# Altium schematic symbol library Altium Library Master.SchLib: 676 symbols (part 4 of 4)
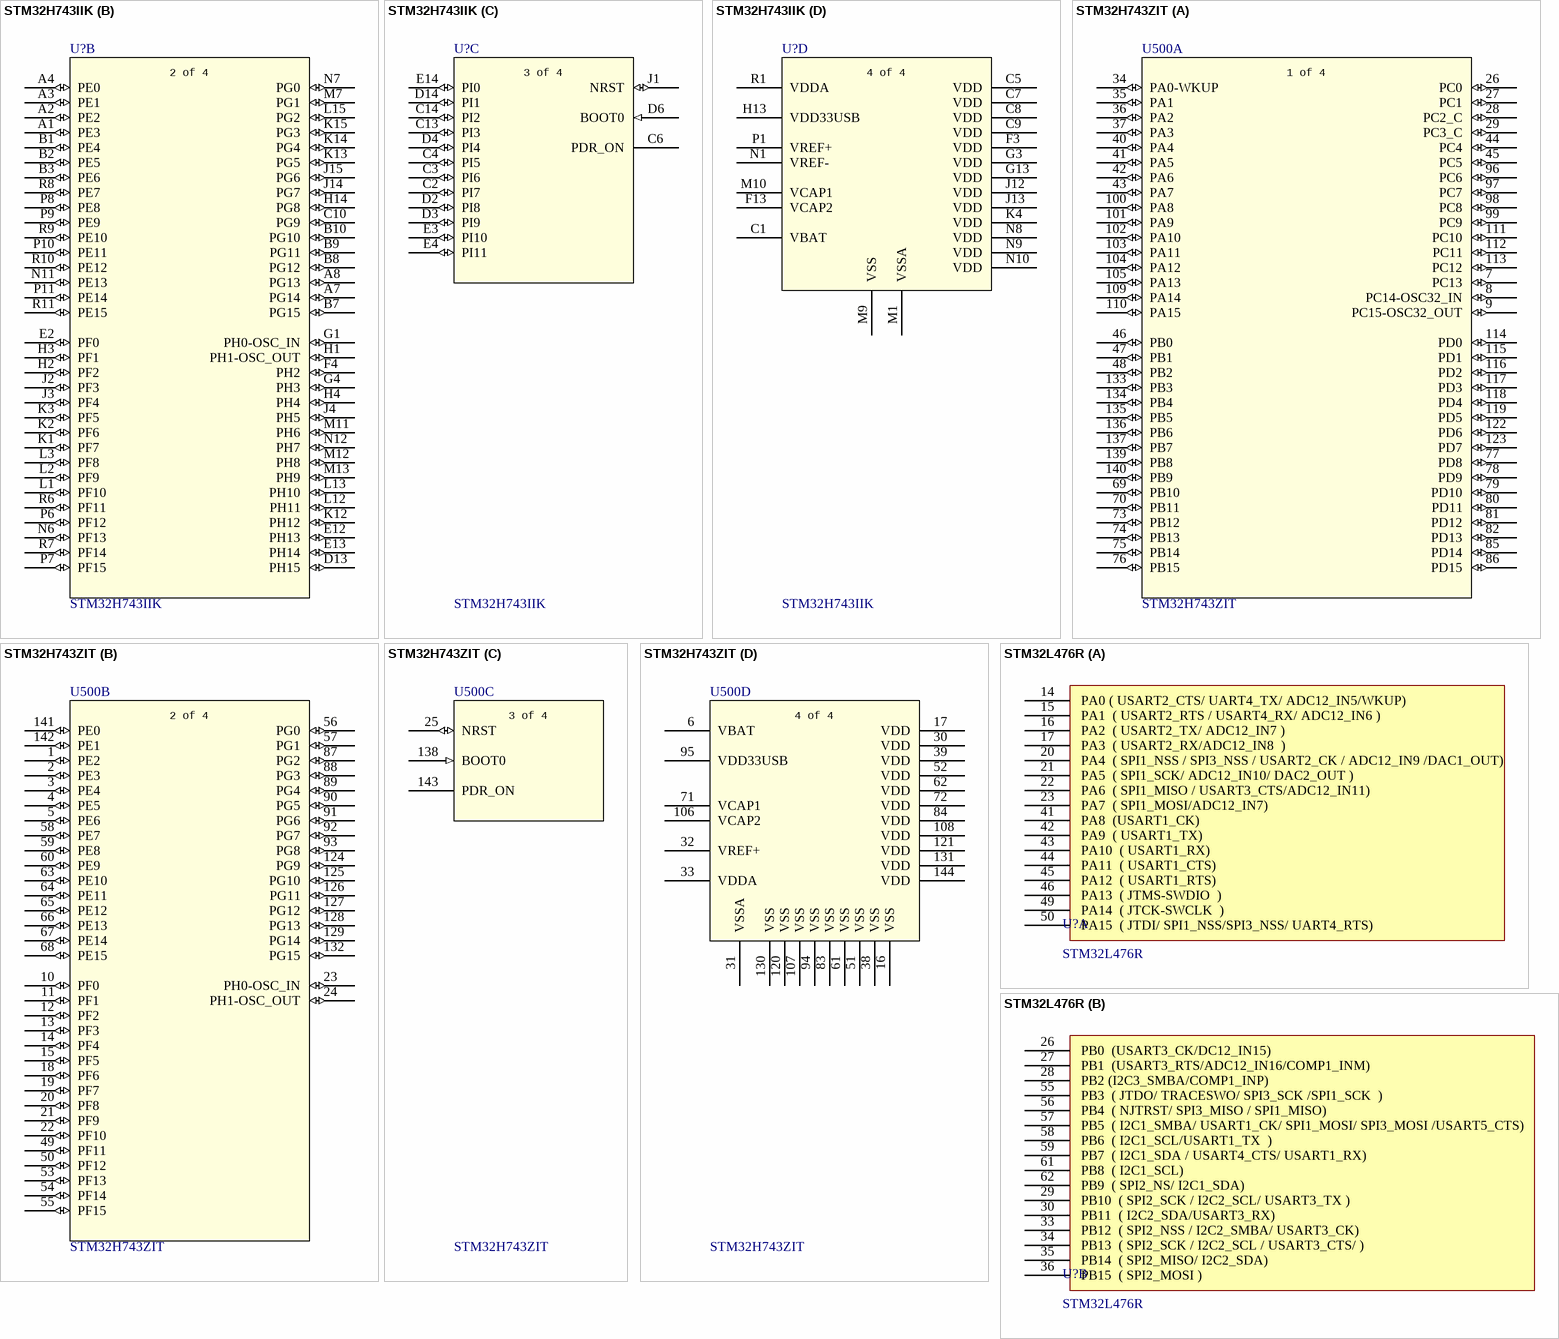
[diagram p34: symbols STM32H743IIK to STM32L476R]

## STM32H743ZIT
designator U500
Microcontroller, ARM, 32b, 400MHz, 2M Flash, 1.6-3.6V, 144LQFP; Part Number: 51-32H743-01
footprint LQFP144
part A pins: 7 PC13 (io), 8 PC14-OSC32_IN (io), 9 PC15-OSC32_OUT (io), 26 PC0 (io), 27 PC1 (io), 28 PC2_C (io), 29 PC3_C (io), 34 PA0-WKUP (io), 35 PA1 (io), 36 PA2 (io), 37 PA3 (io), 40 PA4 (io), 41 PA5 (io), 42 PA6 (io), 43 PA7 (io), 44 PC4 (io), 45 PC5 (io), 46 PB0 (io), 47 PB1 (io), 48 PB2 (io), 69 PB10 (io), 70 PB11 (io), 73 PB12 (io), 74 PB13 (io), 75 PB14 (io), 76 PB15 (io), 77 PD8 (io), 78 PD9 (io), 79 PD10 (io), 80 PD11 (io), 81 PD12 (io), 82 PD13 (io), 85 PD14 (io), 86 PD15 (io), 96 PC6 (io), 97 PC7 (io), 98 PC8 (io), 99 PC9 (io), 100 PA8 (io), 101 PA9 (io), 102 PA10 (io), 103 PA11 (io), 104 PA12 (io), 105 PA13 (io), 109 PA14 (io), 110 PA15 (io), 111 PC10 (io), 112 PC11 (io), 113 PC12 (io), 114 PD0 (io), 115 PD1 (io), 116 PD2 (io), 117 PD3 (io), 118 PD4 (io), 119 PD5 (io), 122 PD6 (io), 123 PD7 (io), 133 PB3 (io), 134 PB4 (io), 135 PB5 (io), 136 PB6 (io), 137 PB7 (io), 139 PB8 (io), 140 PB9 (io)
part B pins: 1 PE2 (io), 2 PE3 (io), 3 PE4 (io), 4 PE5 (io), 5 PE6 (io), 10 PF0 (io), 11 PF1 (io), 12 PF2 (io), 13 PF3 (io), 14 PF4 (io), 15 PF5 (io), 18 PF6 (io), 19 PF7 (io), 20 PF8 (io), 21 PF9 (io), 22 PF10 (io), 23 PH0-OSC_IN (io), 24 PH1-OSC_OUT (io), 49 PF11 (io), 50 PF12 (io), 53 PF13 (io), 54 PF14 (io), 55 PF15 (io), 56 PG0 (io), 57 PG1 (io), 58 PE7 (io), 59 PE8 (io), 60 PE9 (io), 63 PE10 (io), 64 PE11 (io), 65 PE12 (io), 66 PE13 (io), 67 PE14 (io), 68 PE15 (io), 87 PG2 (io), 88 PG3 (io), 89 PG4 (io), 90 PG5 (io), 91 PG6 (io), 92 PG7 (io), 93 PG8 (io), 124 PG9 (io), 125 PG10 (io), 126 PG11 (io), 127 PG12 (io), 128 PG13 (io), 129 PG14 (io), 132 PG15 (io), 141 PE0 (io), 142 PE1 (io)
part C pins: 25 NRST (io), 138 BOOT0 (in), 143 PDR_ON
part D pins: 6 VBAT (power), 16 VSS (power), 17 VDD (power), 30 VDD (power), 31 VSSA (power), 32 VREF+ (power), 33 VDDA (power), 38 VSS (power), 39 VDD (power), 51 VSS (power), 52 VDD (power), 61 VSS (power), 62 VDD (power), 71 VCAP1 (power), 72 VDD (power), 83 VSS (power), 84 VDD (power), 94 VSS (power), 95 VDD33USB (power), 106 VCAP2 (power), 107 VSS (power), 108 VDD (power), 120 VSS (power), 121 VDD (power), 130 VSS (power), 131 VDD (power), 144 VDD (power)
part A text: 1 of 4
part B text: 2 of 4
part C text: 3 of 4
part D text: 4 of 4

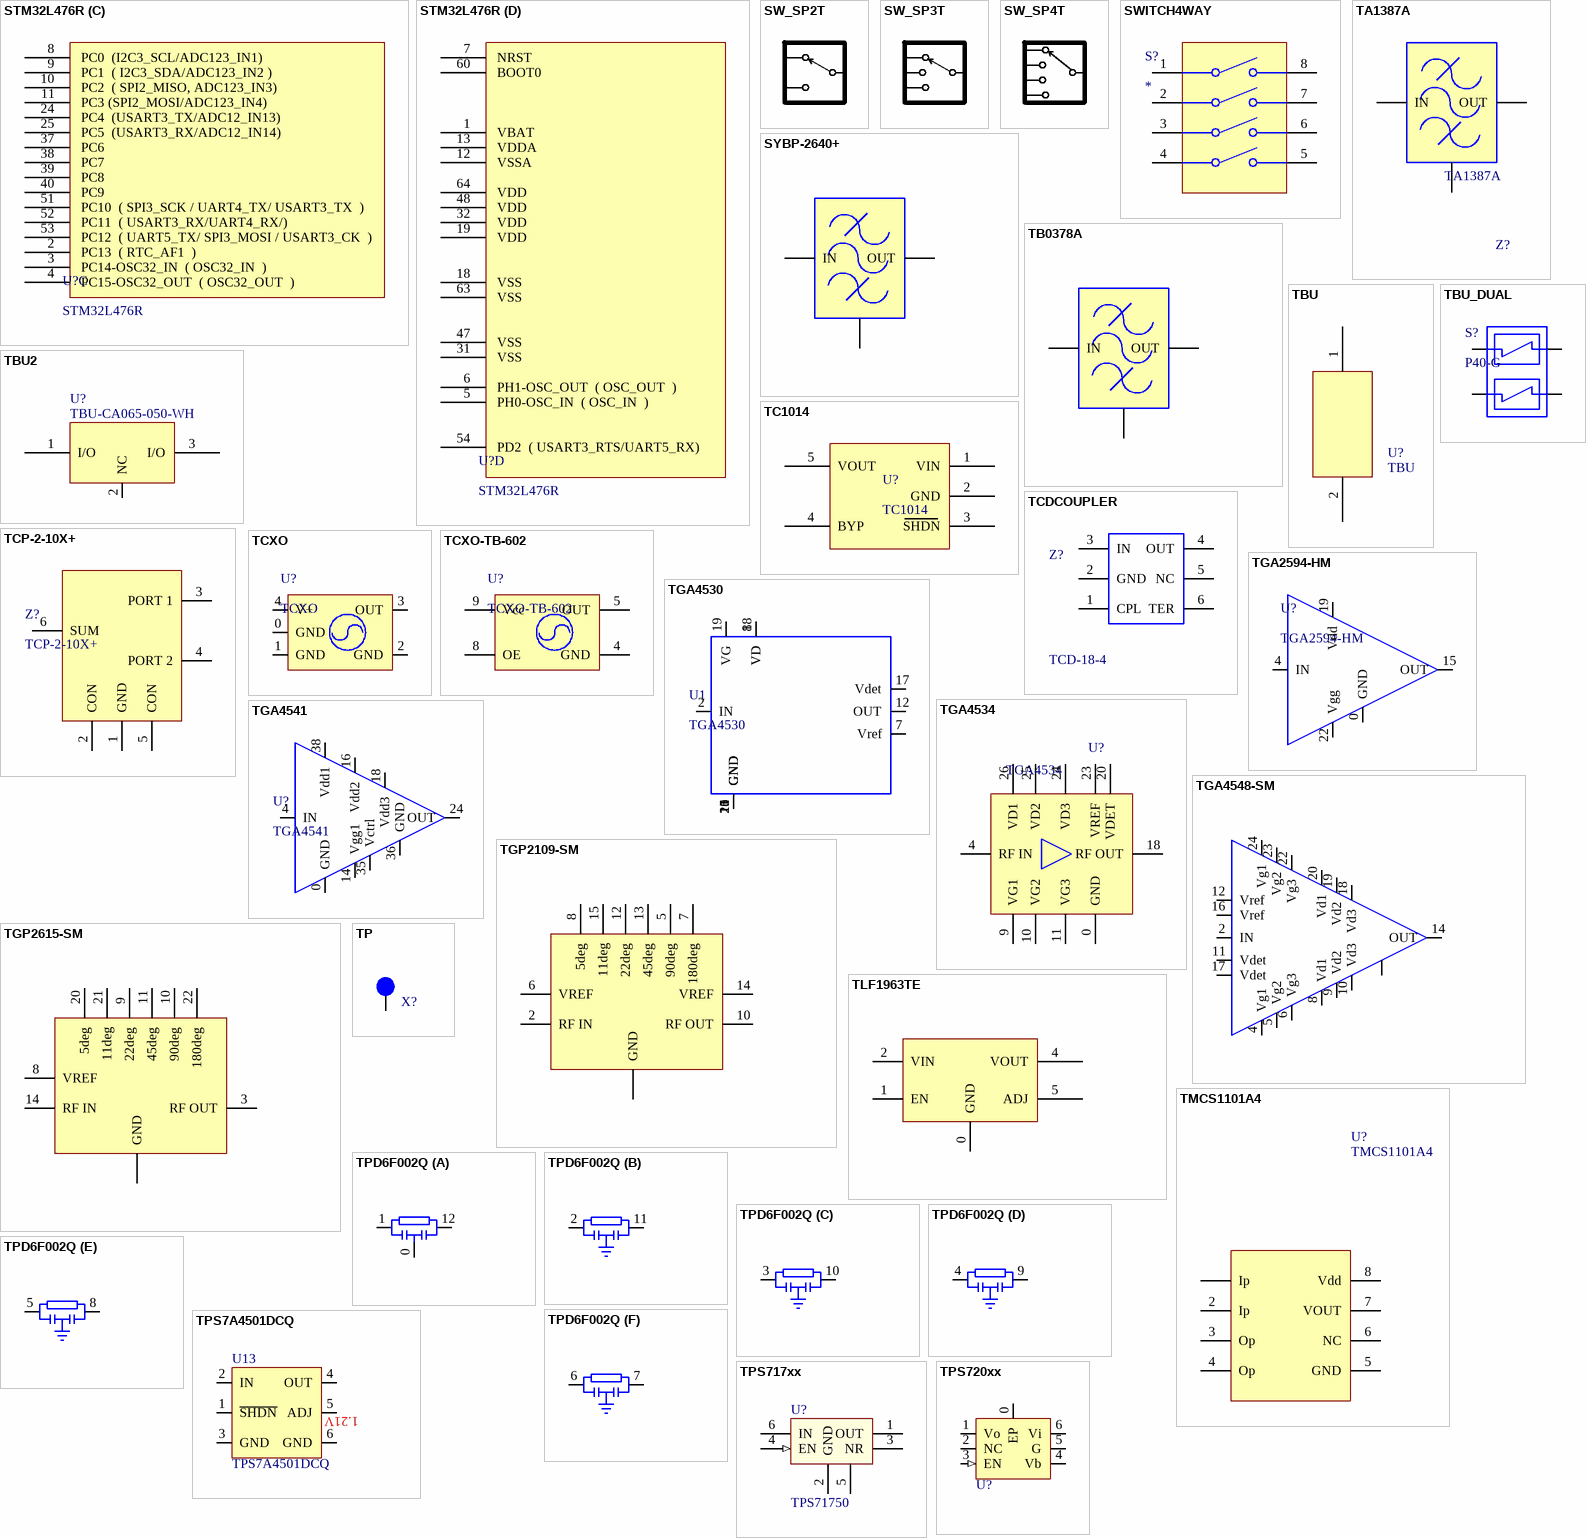
[diagram p28: symbols STM32L476R to TPS720xx]

## STM32L476R
designator U?
STM32L4 MCU (64-pin)
footprint LQFP64 (Footprint not found)
part A pins: 14  PA0 ( USART2_CTS/ UART4_TX/ ADC12_IN5/WKUP), 15  PA1  ( USART2_RTS / USART4_RX/ ADC12_IN6 ), 16  PA2  ( USART2_TX/ ADC12_IN7 ), 17  PA3  ( USART2_RX/ADC12_IN8  ), 20  PA4  ( SPI1_NSS / SPI3_NSS / USART2_CK / ADC12_IN9 /DAC1_OUT), 21  PA5  ( SPI1_SCK/ ADC12_IN10/ DAC2_OUT ), 22  PA6  ( SPI1_MISO / USART3_CTS/ADC12_IN11), 23  PA7  ( SPI1_MOSI/ADC12_IN7), 41  PA8  (USART1_CK), 42  PA9  ( USART1_TX), 43  PA10  ( USART1_RX), 44  PA11  ( USART1_CTS), 45  PA12  ( USART1_RTS), 46  PA13  ( JTMS-SWDIO  ), 49  PA14  ( JTCK-SWCLK  ), 50  PA15  ( JTDI/ SPI1_NSS/SPI3_NSS/ UART4_RTS)
part B pins: 26  PB0  (USART3_CK/DC12_IN15), 27  PB1  (USART3_RTS/ADC12_IN16/COMP1_INM), 28  PB2 (I2C3_SMBA/COMP1_INP), 29  PB10  ( SPI2_SCK / I2C2_SCL/ USART3_TX ), 30  PB11  ( I2C2_SDA/USART3_RX), 33  PB12  ( SPI2_NSS / I2C2_SMBA/ USART3_CK), 34  PB13  ( SPI2_SCK / I2C2_SCL / USART3_CTS/ ), 35  PB14  ( SPI2_MISO/ I2C2_SDA), 36  PB15  ( SPI2_MOSI ), 55  PB3  ( JTDO/ TRACESWO/ SPI3_SCK /SPI1_SCK  ), 56  PB4  ( NJTRST/ SPI3_MISO / SPI1_MISO), 57  PB5  ( I2C1_SMBA/ USART1_CK/ SPI1_MOSI/ SPI3_MOSI /USART5_CTS), 58  PB6  ( I2C1_SCL/USART1_TX  ), 59  PB7  ( I2C1_SDA / USART4_CTS/ USART1_RX), 61  PB8  ( I2C1_SCL), 62  PB9  ( SPI2_NS/ I2C1_SDA)
part C pins: 2  PC13  ( RTC_AF1  ), 3  PC14-OSC32_IN  ( OSC32_IN  ), 4  PC15-OSC32_OUT  ( OSC32_OUT  ), 8  PC0  (I2C3_SCL/ADC123_IN1), 9  PC1  ( I2C3_SDA/ADC123_IN2 ), 10  PC2  ( SPI2_MISO, ADC123_IN3), 11  PC3 (SPI2_MOSI/ADC123_IN4), 24  PC4  (USART3_TX/ADC12_IN13), 25  PC5  (USART3_RX/ADC12_IN14), 37  PC6, 38  PC7 , 39  PC8, 40  PC9, 51  PC10  ( SPI3_SCK / UART4_TX/ USART3_TX  ), 52  PC11  ( USART3_RX/UART4_RX/), 53  PC12  ( UART5_TX/ SPI3_MOSI / USART3_CK  )
part D pins: 1  VBAT  , 5  PH0-OSC_IN  ( OSC_IN  ), 6  PH1-OSC_OUT  ( OSC_OUT  ), 7  NRST  , 12  VSSA  , 13  VDDA  , 18  VSS, 19  VDD  , 31  VSS, 32  VDD  , 47  VSS, 48  VDD  , 54  PD2  ( USART3_RTS/UART5_RX), 60  BOOT0, 63  VSS, 64  VDD  

## SW_SP2T
designator Z?  (graphical)

## SW_SP3T
designator Z?  (graphical)

## SW_SP4T
designator Z?  (graphical)

## SWITCH4WAY
designator S?
pins: 1, 2, 3, 4, 5, 6, 7, 8

## SYBP-2640+
designator Z?
Filter, Band Pass, 2500-2780MHz, SMD 6.35x7.87x3.81mm; Part Number: 20-H10-04
pins: 1 GND, 2 GND hidden to GND, 3 GND hidden to GND, 4 IN, 5 GND hidden to GND, 6 OUT

## TA1387A
designator Z?
Filter, SAW, 1330MHz, bw 80MHz, SMD 3x3mm
footprint TA1387A
pins: 1 GND, 2 IN, 3 GND hidden to GND, 4 GND hidden to GND, 5 OUT, 6 GND hidden to GND

## TB0378A
designator Z?
footprint TB0378A
pins: 1 IN, 2 GND hidden to GND, 3 GND hidden to GND, 4 GND, 5 OUT, 6 GND hidden to GND, 7 GND hidden to GND, 8 GND hidden to GND

## TBU
designator U?
pins: 1, 2

## TBU2
designator U?, comment TBU-CA065-050-WH
pins: 1 I/O, 2 NC, 3 I/O

## TBU_DUAL
designator S?, comment P40-G
Dual Transient Blocking Unit
pins: 1 IN1, 3 OUT1, 4 OUT2, 6 IN2

## TC1014
designator U?
Volt Regulator, 3V, 50mA, LDO, SOT23/5, -40/+125C
pins: 1 VIN, 2 GND, 3 SHDN, 4 BYP, 5 VOUT

## TCDCOUPLER
designator Z?, comment TCD-18-4
pins: 1 CPL, 2 GND, 3 IN, 4 OUT, 5 NC, 6 TER

## TCP-2-10X+
designator Z?
RF Splitter/Combiner, 2way, 0deg, 5-1000MHz, SMD
pins: 1 GND, 2 CON, 3 PORT 1, 4 PORT 2, 5 CON, 6 SUM

## TCXO
designator U?
106.5MHz TCXO
pins: 0 GND, 1 GND, 2 GND, 3 OUT, 4 V+

## TCXO-TB-602
designator U?
50MHz TCXO
pins: 4 GND, 5 OUT, 8 OE, 9 Vcc

## TGA2594-HM
designator U?
GaN Packaged Ka MMIC
pins: 0 GND, 4 IN, 15 OUT, 19 Vdd, 22 Vgg

## TGA4530
designator U1
17 - 21 GHz 1W Amplifier
pins: 0 GND, 1 GND, 2 IN, 3 NC hidden, 4 NC hidden, 5 GND, 6 GND, 7 Vref, 8 VD, 9 NC hidden, 10 GND, 11 GND, 12 OUT, 13 NC hidden, 14 NC hidden, 15 GND, 16 GND, 17 Vdet, 18 VD, 19 VG, 20 GND, 21 GND

## TGA4534
designator U?
4W KaBand GaAs Amplifier
pins: 0 GND, 1 GND hidden to GND, 2 NC hidden to GND, 3 NC hidden to GND, 4 RF IN, 5 NC hidden to GND, 6 NC hidden to GND, 7 GND hidden to GND, 8 GND hidden to GND, 9 VG1, 10 VG2, 11 VG3, 13 GND hidden to GND, 14 GND hidden to GND, 15 GND hidden to GND, 16 NC hidden to GND, 17 NC hidden to GND, 18 RF OUT, 19 NC hidden to GND, 20 VDET, 21 GND hidden to GND, 22 GND hidden to GND, 23 VREF, 24 VD3, 25 VD2, 26 VD1, 28 GND hidden to GND

## TGA4541
designator U?
VARIABLE GAIN AMPLIFIER  28 - 31 GHz
pins: 0 GND, 4 IN, 14 Vgg1, 16 Vdd2, 18 Vdd3, 24 OUT, 35 Vctrl, 36 GND, 38 Vdd1

## TGA4548-SM
designator U?
Qorvo 17–20 GHz, 10W GaN Power Amplifier; Part Number: 20-H10-04
pins: 0 GND, 1 GND, 2 IN, 3 GND, 4 Vg1, 5 Vg2, 6 Vg3, 7 GND, 8 Vd1, 9 Vd2, 10 Vd3, 11 Vdet, 12 Vref, 13 GND, 14 OUT, 15 GND, 16 Vref, 17 Vdet, 18 Vd3, 19 Vd2, 20 Vd1, 21 GND, 22 Vg3, 23 Vg2, 24 Vg1

## TGP2109-SM
designator U?
MMIC, Phase Shifter, 8-12GHz, 3.3V
footprint TGP2109-SM
pins: 0 GND, 1 hidden to GND, 2 RF IN, 3 hidden to GND, 4 hidden to GND, 5 90deg, 6 VREF, 7 180deg, 8 5deg, 9 hidden to GND, 10 RF OUT, 11 hidden to GND, 12 22deg, 13 45deg, 14 VREF, 15 11deg, 16 hidden to GND

## TGP2615-SM
designator U?
MMIC, Phase Shifter, 15-19GHz, 3.3V; Part Number: 20-H10-04
footprint TGP2615-SM
pins: 0 GND hidden to GND, 1 GND, 2 GND hidden to GND, 3 RF OUT, 4 GND hidden to GND, 5 NC hidden, 6 GND hidden to GND, 7 GNF hidden to GND, 8 VREF, 9 22deg, 10 90deg, 11 45deg, 12 GND hidden to GND, 13 GND hidden to GND, 14 RF IN, 15 GND hidden to GND, 16 NC hidden, 17 GND hidden to GND, 18 GND hidden to GND, 19 GND hidden to GND, 20 5deg, 21 11deg, 22 180deg, 23 NC hidden, 24 GND hidden to GND

## TLF1963TE
designator U?
pins: 0 GND, 1 EN, 2 VIN, 4 VOUT, 5 ADJ

## TMCS1101A4
designator U?
Current Transducer, SO-8
footprint SOIC-8 (Standard SO-8 package)
pins: 1 Ip, 2 Ip, 3 Op, 4 Op, 5 GND, 6 NC, 7 VOUT, 8 Vdd

## TP
designator X?  (no BOM)
Test Point, PTH on PCB
pins: 1

## TPD6F002Q
designator Z?
RC Pi-Pad EMI Filter
part A pins: 0 GND, 1 IN, 12 OUT
part B pins: 2 IN, 11 OUT
part C pins: 3 IN, 10 OUT
part D pins: 4 IN, 9 OUT
part E pins: 5 IN, 8 OUT
part F pins: 6 IN, 7 OUT

## TPS7A4501DCQ
designator U13
footprint TPS7A4501DCQ (Footprint not found)
pins: 1 ~{SHDN}, 2 IN, 3 GND, 4 OUT, 5 ADJ, 6 GND
text: 1.21V

## TPS717xx
designator U?, comment TPS71750
EMS_PARTNO: 52-717-01; EMS_PARTNO: 46-X-09; EMS_PARTNO: 51-6SX9-01; EMS_PARTNO: 52-1818-01; EMS_PARTNO: 53-9180-01; EMS_PARTNO: 22-S-23; EMS_PARTNO: 50-38-17; EMS_PARTNO: 50-07-17
footprint TPS717x_DSE
pins: 1 OUT (power), 2 GND (power), 3 NR, 4 EN (in), 5 (power), 6 IN (power)

## TPS720xx
designator U?
LDO Linear Regulator, 350 mA
footprint TPS72018DRV (350mA, Ultra-Low VIN, RF Low-Dropout Linear Regulator with Bias Pin)
pins: 0 EP (power), 1 Vo (power), 2 NC, 3 EN (in), 4 Vb (power), 5 G (power), 6 Vi (power)

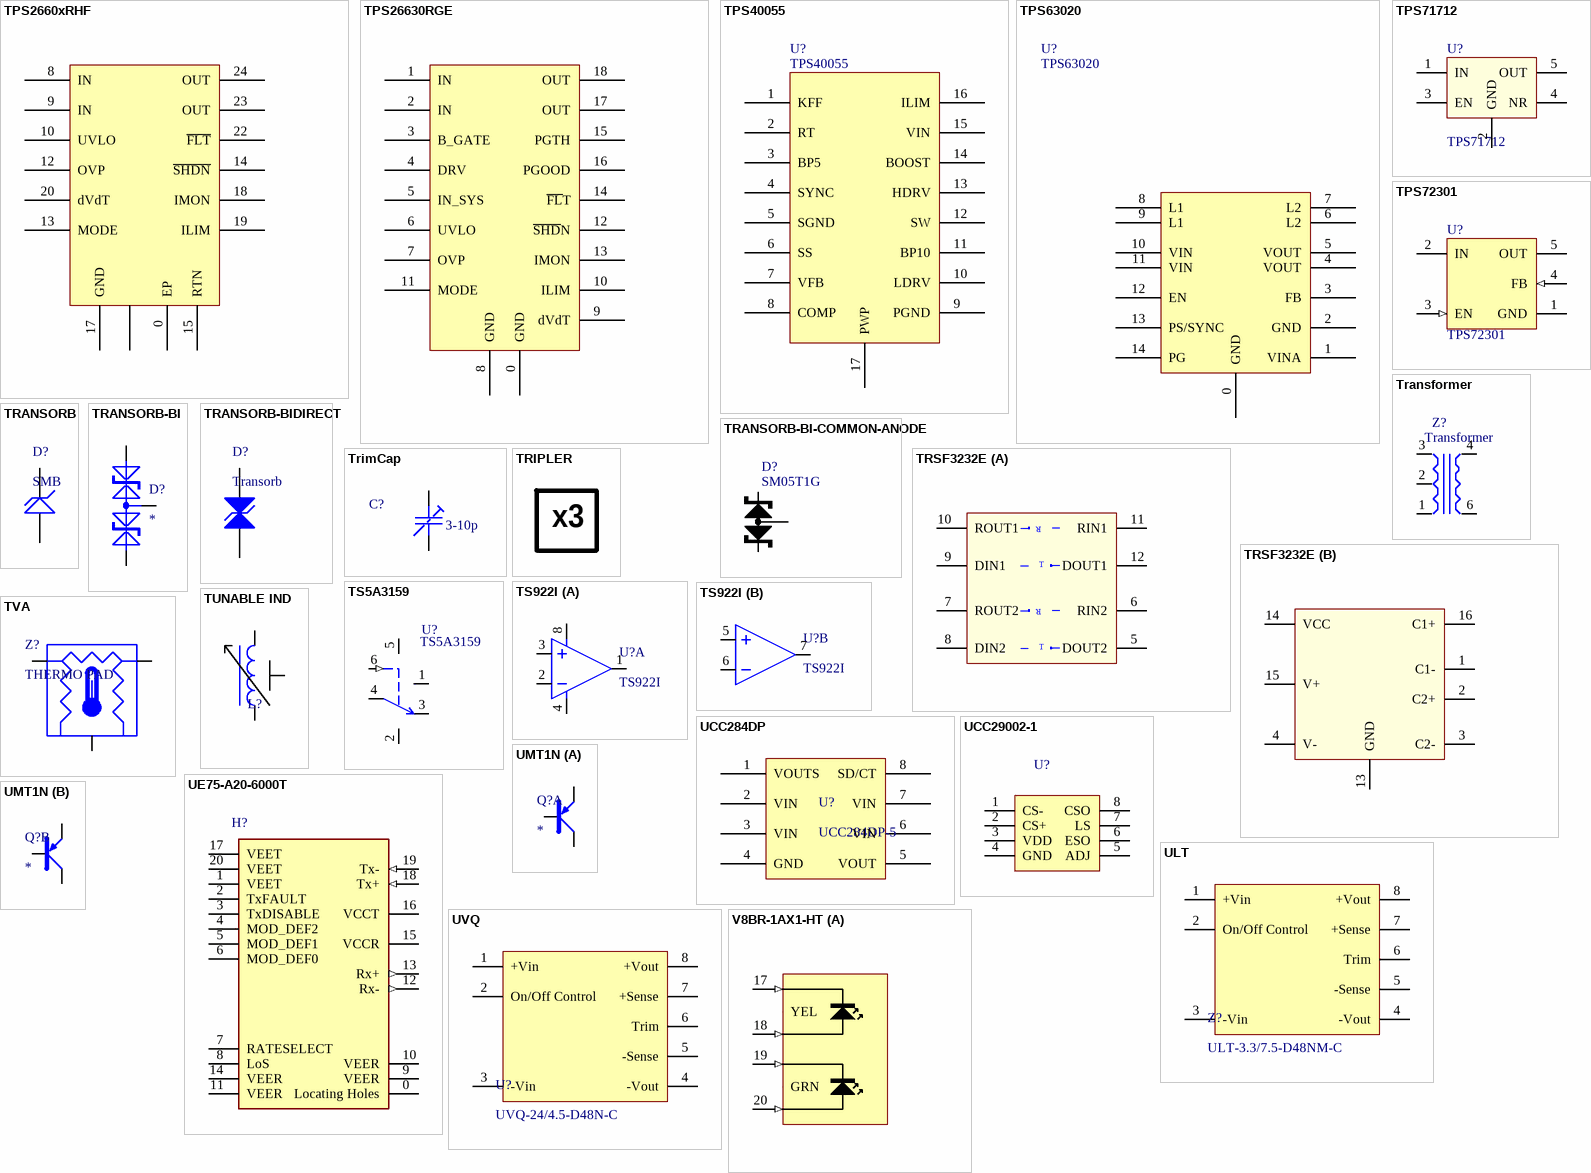
[diagram p29: symbols TPS2660xRHF to V8BR-1AX1-HT]

## TPS2660xRHF
designator U?
eFuse, 2A, 4.2V-60V, 24-VQFN-5x4mm; Part Number: 20-H10-04
footprint 24-VQFN-5x4mm
pins: 0 EP, 1 NC, 2 NC, 3 NC, 4 NC, 5 NC, 6 NC, 7 NC, 8 IN, 9 IN, 10 UVLO, 11 NC, 12 OVP, 13 MODE, 14 ~{SHDN}, 15 RTN, 16 NC, 17 GND, 18 IMON, 19 ILIM, 20 dVdT, 21 NC, 22 ~{FLT}, 23 OUT, 24 OUT

## TPS26630RGE
designator U?
eFuse, 6A, 4.2V-60V, 24-VQFN-4x4mm; Part Number: 20-H10-04
footprint 24-VQFN-4x4mm
pins: 0 GND, 1 IN, 2 IN, 3 B_GATE, 4 DRV, 5 IN_SYS, 6 UVLO, 7 OVP, 8 GND, 9 dVdT, 10 ILIM, 11 MODE, 12 ~{SHD}N, 13 IMON, 14 ~{FL}T, 15 PGTH, 16 PGOOD, 17 OUT, 18 OUT, 19 NC, 20 NC, 21 NC, 22 NC, 23 NC, 24 NC

## TPS40055
designator U?
BUCK Controller
pins: 1 KFF, 2 RT, 3 BP5, 4 SYNC, 5 SGND, 6 SS, 7 VFB, 8 COMP, 9 PGND, 10 LDRV, 11 BP10, 12 SW, 13 HDRV, 14 BOOST, 15 VIN, 16 ILIM, 17 PWP

## TPS63020
designator U?
BUCK-BOOST Converter, Vin 2.5 - 5.5V
pins: 0 GND, 1 VINA, 2 GND, 3 FB, 4 VOUT, 5 VOUT, 6 L2, 7 L2, 8 L1, 9 L1, 10 VIN, 11 VIN, 12 EN, 13 PS/SYNC, 14 PG

## TPS71712
designator U?
Volt Regulator, LDO, 1.2Vout 150mA
pins: 1 IN (power), 2 GND, 3 EN, 4 NR, 5 OUT (power)

## TPS72301
designator U?
LDO Linear Regulator, Negative Adjustable, 250 mA; Manufacturer 1: TEXAS INSTRUMENTS; Manufacturer's 1 P/N: TPS72301DBVT; UOM: EA
pins: 1 GND (power), 2 IN (power), 3 EN (in), 4 FB (in), 5 OUT (power)

## Transformer
designator Z?
pins: 1, 2, 3, 4, 6

## TRANSORB
designator D?, comment SMB
pins: A, K

## TRANSORB-BI
designator D?
pins: 1, 2, 3

## TRANSORB-BI-COMMON-ANODE
designator D?, comment SM05T1G
Transorb, Dual, Common Anode, 300W, Vwm=5.0V, SOT-23; Part Number: 61-SM05T1-01; MANUFACTURER: On Semiconductor; Category: EMS Parts Master
footprint SOT-23
pins: 1, 2, 3

## TRANSORB-BIDIRECT
designator D?, comment Transorb
pins: 1, 2

## TrimCap
designator C?, comment 3-10p
Value: 3-10p
pins: 1, 2

## TRIPLER
designator U?
text: x3

## TRSF3232E
designator U?
Part Number: 20-H10-04
part A pins: 5 DOUT2, 6 RIN2, 7 ROUT2, 8 DIN2, 9 DIN1, 10 ROUT1, 11 RIN1, 12 DOUT1
part B pins: 0 GND hidden, 1 C1-, 2 C2+, 3 C2-, 4 V-, 13 GND, 14 VCC, 15 V+, 16 C1+
part A text: R; T

## TS5A3159
designator U?
pins: 1 NO, 2 GND, 3 NC, 4 COM, 5 V+, 6 IN (in)

## TS922I
designator U?
Dual package rail-to-rail op amp
part A pins: 1, 2, 3, 4, 8
part B pins: 5, 6, 7

## TUNABLE IND
designator L?
Tunable Inductor
pins: 0 GND, 1, 2

## TVA
designator Z?, comment THERMO PAD
TEMPERATURE VARIABLE ATTENUATOR
pins: 1, 2, 3

## UCC284DP
designator U?, comment UCC284DP-5
Volt Regulator, -5.0V 500mA, LDO, -40/+85degC, SO-8
pins: 1 VOUTS, 2 VIN, 3 VIN, 4 GND, 5 VOUT, 6 VIN, 7 VIN, 8 SD/CT

## UCC29002-1
designator U?
Advanced 8-Pin Load-Share Controller
footprint UCC29002-1 (Advanced 8-Pin Load-Share Controller)
pins: 1 CS-, 2 CS+, 3 VDD, 4 GND, 5 ADJ, 6 ESO, 7 LS, 8 CSO

## UE75-A20-6000T
designator H?, comment SFP connector  (value not drawn)
Manufacturer: MOLEX; RoHS: true; TempMin: -40; TempMax: 85; DigiKeyCode: UE75-A20-6000TCT-ND; DigiKeyPrice: 0.89; FarnellMOQ: 1; DigiKeyMOQ: 1; Price: 0.616; PriceComment: DigiKey 50 unit price; Supplier: DigiKey
pins: 0 Locating Holes, 1 VEET (power), 2 TxFAULT, 3 TxDISABLE, 4 MOD_DEF2, 5 MOD_DEF1, 6 MOD_DEF0, 7 RATESELECT, 8 LoS, 9 VEER (power), 10 VEER (power), 11 VEER (power), 12 Rx- (out), 13 Rx+ (out), 14 VEER (power), 15 VCCR (power), 16 VCCT (power), 17 VEET (power), 18 Tx+ (in), 19 Tx- (in), 20 VEET (power)

## ULT
designator Z?, comment ULT-3.3/7.5-D48NM-C
DC/DC Converter, 25W, 36-75V/3V3, -40/+85, Isolated, SMT 1/32 Brick
pins: 1 +Vin, 2 On/Off Control, 3 -Vin, 4 -Vout, 5 -Sense, 6 Trim, 7 +Sense, 8 +Vout

## UMT1N
designator Q?
part A pins: B1, C1, E1
part B pins: B2, C2, E2

## UVQ
designator U?, comment UVQ-24/4.5-D48N-C
DC/DC Converter, 108W, 36-75V/24V, -40/+85, Isolated, PCB Mnt
footprint UVQ
pins: 1 +Vin, 2 On/Off Control, 3 -Vin, 4 -Vout, 5 -Sense, 6 Trim, 7 +Sense, 8 +Vout

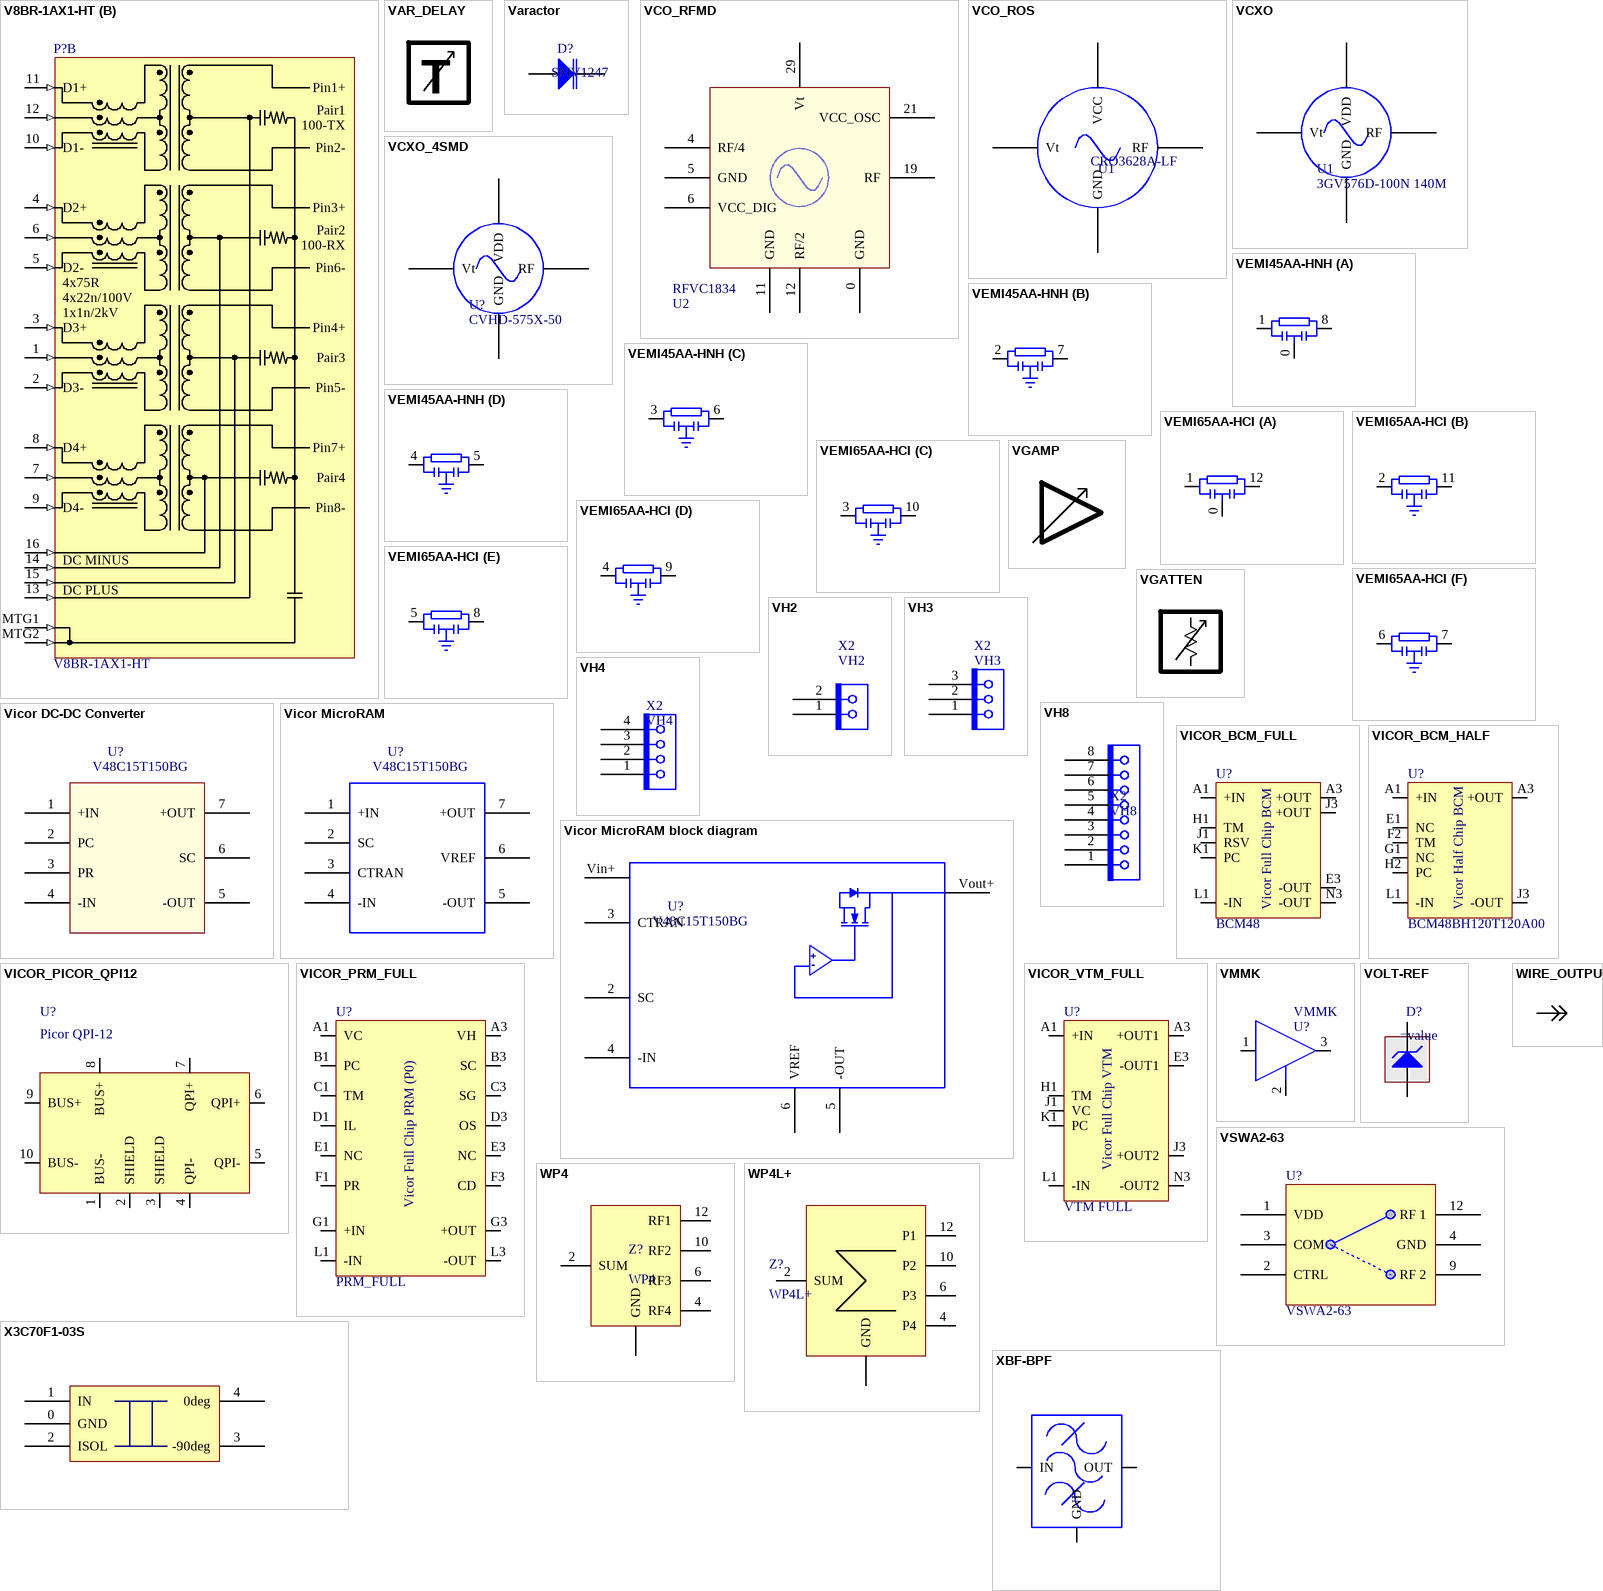
[diagram p30: symbols V8BR-1AX1-HT to XBF-BPF]

## V8BR-1AX1-HT
designator P?
*Socket, RJ45 vertical, PoE, wLEDs, wMagnetics; PCB Mnt, 2.5G; Part Number: unknown; MPN: ARJ-139
part A pins: 17 (in), 18 (in), 19 (in), 20 (in), GRN, YEL
part B pins: 1 (in), 1x1n/2kV, 2 D3- (in), 3 D3+ (in), 4 D2+ (in), 4x22n/100V, 4x75R, 5 D2- (in), 6 (in), 7 (in), 8 D4+ (in), 9 D4- (in), 10 D1- (in), 11 D1+ (in), 12 (in), 13 (in), 14 (in), 15 (in), 16 (in), 100-RX, 100-TX, DC MINUS, DC PLUS, MTG1 (in), MTG2 (in), PairA Pair1, PairB Pair2, PairC Pair3, PairD Pair4, Pin1+, Pin2-, Pin3+, Pin4+, Pin5-, Pin6-, Pin7+, Pin8-

## VAR_DELAY
designator U?
text: T

## Varactor
designator D?, comment SMV1247
Diode
pins: A, K

## VCO_RFMD
designator U2, comment RFVC1834
MMIC VCO with F0/2 & F0/4 outputs
pins: 0 GND, 4 RF/4 "RF Out / 4", 5 GND, 6 VCC_DIG, 11 GND, 12 RF/2 "RF Out / 2", 19 RF "RF Out", 21 VCC_OSC, 29 Vt "Vtune"

## VCO_ROS
designator U1, comment CRO3628A-LF
VCO
pins: 1 Vt, 2 RF "RF Out", 3 VCC, 4 GND "RF Out"

## VCXO
designator U1, comment 3GV576D-100N 140M
VCXO
pins: 1 Vt, 3 GND, 4 RF "RF Out", 6 VDD "VCC"

## VCXO_4SMD
designator U?, comment CVHD-575X-50
VCXO, 50.00MHz, CMOS 3.3V, SMD
pins: 1 Vt, 2 GND, 3 RF "RF Out", 4 VDD "VCC"

## VEMI45AA-HNH
designator Z?
RC Pi-Pad EMI Filter
part A pins: 0 GND, 1 IN, 8 OUT
part B pins: 2 IN, 7 OUT
part C pins: 3 IN, 6 OUT
part D pins: 4 IN, 5 OUT

## VEMI65AA-HCI
designator Z?
RC Pi-Pad EMI Filter
part A pins: 0 GND, 1 IN, 12 OUT
part B pins: 2 IN, 11 OUT
part C pins: 3 IN, 10 OUT
part D pins: 4 IN, 9 OUT
part E pins: 5 IN, 8 OUT
part F pins: 6 IN, 7 OUT

## VGAMP
designator U?

## VGATTEN
designator Z?

## VH2
designator X2
pins: 1, 2

## VH3
designator X2
pins: 1, 2, 3

## VH4
designator X2
pins: 1, 2, 3, 4

## VH8
designator X2
pins: 1, 2, 3, 4, 5, 6, 7, 8

## Vicor DC-DC Converter
designator U?, comment V48C15T150BG
Vicor DC-DC Converter Module
pins: 1 +IN, 2 PC, 3 PR, 4 -IN, 5 -OUT, 6 SC, 7 +OUT

## Vicor MicroRAM
designator U?, comment V48C15T150BG
Vicor µRAM Module
pins: 1 +IN, 2 SC, 3 CTRAN, 4 -IN, 5 -OUT, 6 VREF, 7 +OUT

## Vicor MicroRAM block diagram
designator U?, comment V48C15T150BG
Vicor µRAM Module
pins: 2 SC, 3 CTRAN, 4 -IN, 5 -OUT, 6 VREF, Vin+ +IN, Vout+ +OUT
text: +; -

## VICOR_BCM_FULL
designator U?, comment BCM48
Full Brick Vicor BCM
pins: A1 +IN, A3 +OUT, E3 -OUT, H1 TM, J1 RSV, J3 +OUT, K1 PC, L1 -IN, N3 -OUT
text: Vicor Full Chip BCM

## VICOR_BCM_HALF
designator U?, comment BCM48BH120T120A00
Half Brick Vicor BCM
pins: A1 +IN, A3 +OUT, E1 NC, F2 TM, G1 NC, H2 PC, J3 -OUT, L1 -IN
text: Vicor Half Chip BCM

## VICOR_PICOR_QPI12
designator U?, comment Picor QPI-12
pins: 1 BUS-, 2 SHIELD, 3 SHIELD, 4 QPI-, 5 QPI-, 6 QPI+, 7 QPI+, 8 BUS+, 9 BUS+, 10 BUS-

## VICOR_PRM_FULL
designator U?, comment PRM_FULL
DC-DC Converter Vicor Full Brick
pins: A1 VC, A3 VH, B1 PC, B3 SC, C1 TM, C3 SG, D1 IL, D3 OS, E1 NC, E3 NC, F1 PR, F3 CD, G1 +IN, G3 +OUT, L1 -IN, L3 -OUT
text: Vicor Full Chip PRM (P0)

## VICOR_VTM_FULL
designator U?, comment VTM FULL
pins: A1 +IN, A3 +OUT1, E3 -OUT1, H1 TM, J1 VC, J3 +OUT2, K1 PC, L1 -IN, N3 -OUT2
text: Vicor Full Chip VTM

## VMMK
designator U?
12GHz wideband amplifier
pins: 1 RFin, 2 GND, 3 RFout

## VOLT-REF
designator D?
Voltage Reference Diode
pins: 1 K, 2 A, 3 N/C hidden

## VSWA2-63
designator U?
SPDT RF Switch
pins: 0 GND hidden to GND, 1 VDD, 2 CTRL, 3 COM, 4 GND, 5 GND hidden to GND, 6 GND hidden to GND, 7 GND hidden to GND, 8 GND hidden to GND, 9 RF 2, 10 GND hidden to GND, 11 GND hidden to GND, 12 RF 1, 13 GND hidden to GND, 14 GND hidden to GND, 15 GND hidden to GND, 16 GND hidden to GND

## WIRE_OUTPUT
designator W?  (value not drawn)
pins: 1

## WP4
designator Z?
Divider/Combiner, 4-way
pins: 0 GND, 1 GND hidden to GND, 2 SUM, 3 GND hidden to GND, 4 RF4, 5 GND hidden to GND, 6 RF3, 7 GND hidden to GND, 8 GND hidden to GND, 9 GND hidden to GND, 10 RF2, 11 GND hidden to GND, 12 RF1

## WP4L+
designator Z?
pins: 0 GND, 1 hidden to GND, 2 SUM, 3 hidden to GND, 4 P4, 5 hidden to GND, 6 P3, 7 hidden to GND, 8 hidden to GND, 9 hidden to GND, 10 P2, 11 hidden to GND, 12 P1

## X3C70F1-03S
designator U?
Part Number: 20-H10-04
pins: 0 GND, 1 IN, 2 ISOL, 3 -90deg, 4 0deg

## XBF-BPF
designator Z?, comment XBF-183+
Refelectionless BPF, 18 GHz, BW 1GHz, DG1847
pins: 0 GND, 1 GND, 2 GND, 3 GND, 4 IN, 5 GND, 6 GND, 7 GND, 8 GND, 9 GND, 10 GND, 11 GND, 12 GND, 13 OUT, 14 GND, 15 GND, 16 GND, 17 GND, 18 GND, 19 GND, 20 GND, 21 GND, 22 GND, 23 GND, 24 GND

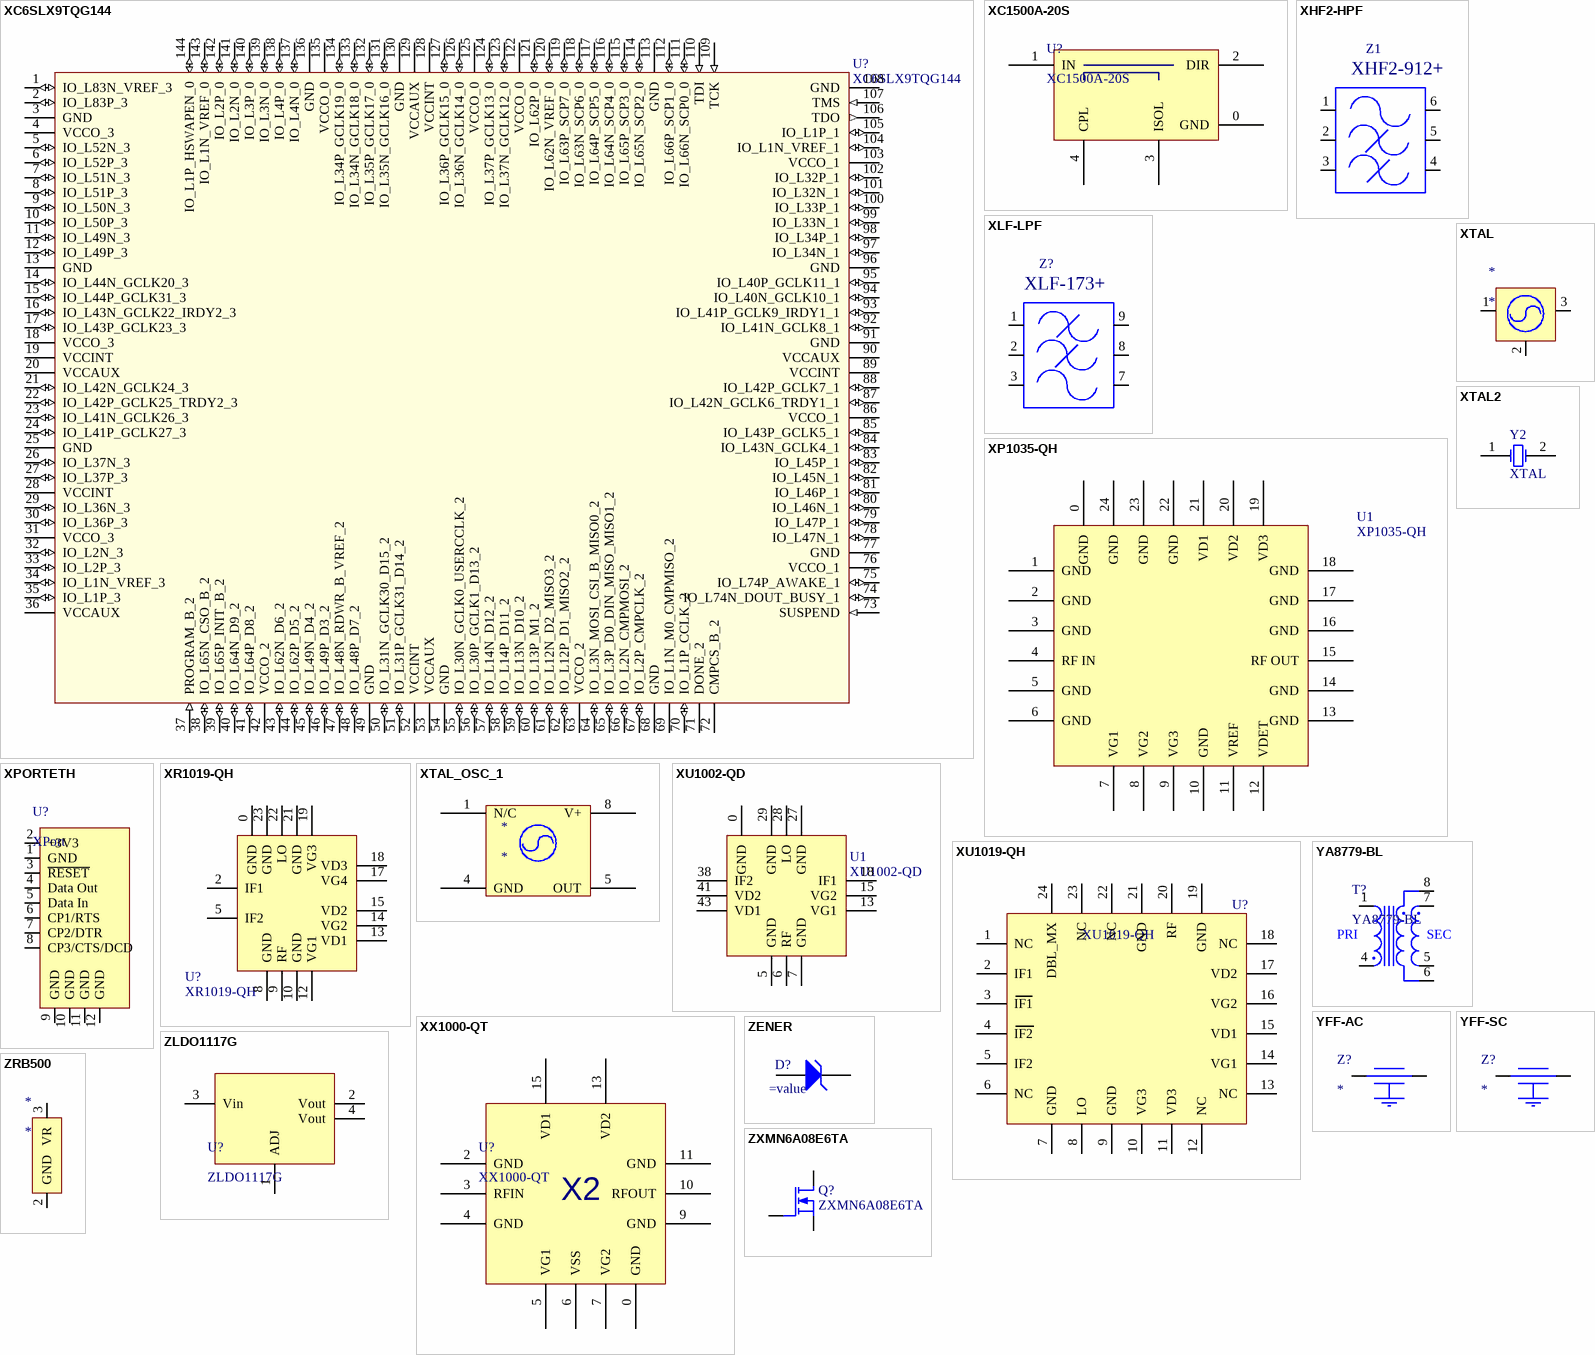
[diagram p31: symbols XC6SLX9TQG144 to ZXMN6A08E6TA]

## XC6SLX9TQG144
designator U?
FPGA, Spartan-6 SLX, 9kcell, 1.2V Core, -40/85C, TQFP144; Value: XC6SLX9TQG144
pins: 1 IO_L83N_VREF_3 (io), 2 IO_L83P_3 (io), 3 GND (power), 4 VCCO_3 (power), 5 IO_L52N_3 (io), 6 IO_L52P_3 (io), 7 IO_L51N_3 (io), 8 IO_L51P_3 (io), 9 IO_L50N_3 (io), 10 IO_L50P_3 (io), 11 IO_L49N_3 (io), 12 IO_L49P_3 (io), 13 GND (power), 14 IO_L44N_GCLK20_3 (io), 15 IO_L44P_GCLK31_3 (io), 16 IO_L43N_GCLK22_IRDY2_3 (io), 17 IO_L43P_GCLK23_3 (io), 18 VCCO_3 (power), 19 VCCINT (power), 20 VCCAUX (power), 21 IO_L42N_GCLK24_3 (io), 22 IO_L42P_GCLK25_TRDY2_3 (io), 23 IO_L41N_GCLK26_3 (io), 24 IO_L41P_GCLK27_3 (io), 25 GND (power), 26 IO_L37N_3 (io), 27 IO_L37P_3 (io), 28 VCCINT (power), 29 IO_L36N_3 (io), 30 IO_L36P_3 (io), 31 VCCO_3 (power), 32 IO_L2N_3 (io), 33 IO_L2P_3 (io), 34 IO_L1N_VREF_3 (io), 35 IO_L1P_3 (io), 36 VCCAUX (power), 37 PROGRAM_B_2 (in), 38 IO_L65N_CSO_B_2 (io), 39 IO_L65P_INIT_B_2 (io), 40 IO_L64N_D9_2 (io), 41 IO_L64P_D8_2 (io), 42 VCCO_2 (power), 43 IO_L62N_D6_2 (io), 44 IO_L62P_D5_2 (io), 45 IO_L49N_D4_2 (io), 46 IO_L49P_D3_2 (io), 47 IO_L48N_RDWR_B_VREF_2 (io), 48 IO_L48P_D7_2 (io), 49 GND (power), 50 IO_L31N_GCLK30_D15_2 (io), 51 IO_L31P_GCLK31_D14_2 (io), 52 VCCINT (power), 53 VCCAUX (power), 54 GND (power), 55 IO_L30N_GCLK0_USERCCLK_2 (io), 56 IO_L30P_GCLK1_D13_2 (io), 57 IO_L14N_D12_2 (io), 58 IO_L14P_D11_2 (io), 59 IO_L13N_D10_2 (io), 60 IO_L13P_M1_2 (io), 61 IO_L12N_D2_MISO3_2 (io), 62 IO_L12P_D1_MISO2_2 (io), 63 VCCO_2 (power), 64 IO_L3N_MOSI_CSI_B_MISO0_2 (io), 65 IO_L3P_D0_DIN_MISO_MISO1_2 (io), 66 IO_L2N_CMPMOSI_2 (io), 67 IO_L2P_CMPCLK_2 (io), 68 GND (power), 69 IO_L1N_M0_CMPMISO_2 (power), 70 IO_L1P_CCLK_2 (io), 71 DONE_2 (power), 72 CMPCS_B_2 (power), 73 SUSPEND (in), 74 IO_L74N_DOUT_BUSY_1 (io), 75 IO_L74P_AWAKE_1 (io), 76 VCCO_1 (power), 77 GND (power), 78 IO_L47N_1 (io), 79 IO_L47P_1 (io), 80 IO_L46N_1 (io), 81 IO_L46P_1 (io), 82 IO_L45N_1 (io), 83 IO_L45P_1 (io), 84 IO_L43N_GCLK4_1 (io), 85 IO_L43P_GCLK5_1 (io), 86 VCCO_1 (power), 87 IO_L42N_GCLK6_TRDY1_1 (io), 88 IO_L42P_GCLK7_1 (io), 89 VCCINT (power), 90 VCCAUX (power), 91 GND (power), 92 IO_L41N_GCLK8_1 (io), 93 IO_L41P_GCLK9_IRDY1_1 (io), 94 IO_L40N_GCLK10_1 (io), 95 IO_L40P_GCLK11_1 (io), 96 GND (power), 97 IO_L34N_1 (io), 98 IO_L34P_1 (io), 99 IO_L33N_1 (io), 100 IO_L33P_1 (io), 101 IO_L32N_1 (io), 102 IO_L32P_1 (io), 103 VCCO_1 (power), 104 IO_L1N_VREF_1 (io), 105 IO_L1P_1 (io), 106 TDO (out), 107 TMS (in), 108 GND (power), 109 TCK (in), 110 TDI (in), 111 IO_L66N_SCP0_0 (io), 112 IO_L66P_SCP1_0 (io), 113 GND (power), 114 IO_L65N_SCP2_0 (io), 115 IO_L65P_SCP3_0 (io), 116 IO_L64N_SCP4_0 (io), 117 IO_L64P_SCP5_0 (io), 118 IO_L63N_SCP6_0 (io), 119 IO_L63P_SCP7_0 (io), 120 IO_L62N_VREF_0 (io), 121 IO_L62P_0 (io), 122 VCCO_0 (power), 123 IO_L37N_GCLK12_0 (io), 124 IO_L37P_GCLK13_0 (io), 125 VCCO_0 (power), 126 IO_L36N_GCLK14_0 (io), 127 IO_L36P_GCLK15_0 (io), 128 VCCINT (power), 129 VCCAUX (power), 130 GND (power), 131 IO_L35N_GCLK16_0 (io), 132 IO_L35P_GCLK17_0 (io), 133 IO_L34N_GCLK18_0 (io), 134 IO_L34P_GCLK19_0 (io), 135 VCCO_0 (power), 136 GND (power), 137 IO_L4N_0 (io), 138 IO_L4P_0 (io), 139 IO_L3N_0 (io), 140 IO_L3P_0 (io), 141 IO_L2N_0 (io), 142 IO_L2P_0 (io), 143 IO_L1N_VREF_0 (io), 144 IO_L1P_HSWAPEN_0 (io)

## XC1500A-20S
designator U?
Coupler, Directional, 20dB, 1 to 2GHz, Pin Config A
footprint XC1500A-20S
pins: 0 GND, 1 IN, 2 DIR, 3 ISOL, 4 CPL

## XHF2-HPF
designator Z1, comment XHF2-912+
footprint XHF2-HPF
pins: 0 GP hidden to GND, 1 GND, 2 IN, 3 GND, 4 GND, 5 OUT, 6 GND

## XLF-LPF
designator Z?, comment XLF-173+
footprint XLF-LPF (QFN, 12-Leads, Body 3.00x3.00mm, Pitch 0.51mm, Thermal Pad 1.24x1.24mm, IPC Medium Density)
pins: 0 GP hidden to GND, 1 GND, 2 IN, 3 GND, 4 GND hidden to GND, 5 GND hidden to GND, 6 GND hidden to GND, 7 GND, 8 OUT, 9 GND, 10 GND hidden to GND, 11 GND hidden to GND, 12 GND hidden to GND

## XP1035-QH
designator U1
Linear Power Amplifier
footprint QFN 4x4mm
pins: 0 GND, 1 GND, 2 GND, 3 GND, 4 RF IN, 5 GND, 6 GND, 7 VG1, 8 VG2, 9 VG3, 10 GND, 11 VREF, 12 VDET, 13 GND, 14 GND, 15 RF OUT, 16 GND, 17 GND, 18 GND, 19 VD3, 20 VD2, 21 VD1, 22 GND, 23 GND, 24 GND

## XPORTETH
designator U?, comment XPort
X Port Ethernet Adaptor
pins: 1 GND, 2 +3V3, 3 ~{RESET}, 4 Data Out, 5 Data In, 6 CP1/RTS, 7 CP2/DTR, 8 CP3/CTS/DCD, 9 GND, 10 GND, 11 GND, 12 GND

## XR1019-QH
designator U?
30GHz Receiver
pins: 0 GND, 1 NC hidden to GND, 2 IF1, 3 NC hidden to GND, 4 NC hidden to GND, 5 IF2, 6 NC hidden to GND, 7 NC hidden to GND, 8 GND, 9 RF, 10 GND, 11 NC hidden to GND, 12 VG1, 13 VD1, 14 VG2, 15 VD2, 16 NC hidden to GND, 17 VG4, 18 VD3, 19 VG3, 20 NC hidden to GND, 21 GND, 22 LO, 23 GND, 24 NC hidden to GND

## XTAL
designator *
pins: 1 N/C, 2 N/C, 3 N/C

## XTAL2
designator Y2, comment XTAL
Crystal; Published: 8-Jun-2000; LatestRevisionDate: 17-Jul-2002; LatestRevisionNote: Re-released for DXP Platform.; PackageReference: R38; Publisher: Altium Limited
pins: 1 OSC1, 2 OSC2

## XTAL_OSC_1
designator *
50MHz XTAL OSC
pins: 1 N/C, 4 GND, 5 OUT, 8 V+

## XU1002-QD
designator U1
20GHz Upconverter
pins: 0 GND, 5 GND, 6 RF, 7 GND, 13 VG1, 15 VG2, 18 IF1, 27 GND, 28 LO, 29 GND, 38 IF2, 41 VD2, 43 VD1

## XU1019-QH
designator U?
pins: 1 NC, 2 IF1, 3 IF1, 4 IF2, 5 IF2, 6 NC, 7 GND, 8 LO, 9 GND, 10 VG3, 11 VD3, 12 NC, 13 NC, 14 VG1, 15 VD1, 16 VG2, 17 VD2, 18 NC, 19 GND, 20 RF, 21 GND, 22 NC, 23 NC, 24 DBL_MX

## XX1000-QT
designator U?
Frequency Doubler, 15 - 45 GHz Output
pins: 0 GND, 1 NC hidden to GND, 2 GND, 3 RFIN, 4 GND, 5 VG1, 6 VSS, 7 VG2, 8 NC hidden to GND, 9 GND, 10 RFOUT, 11 GND, 12 NC hidden to GND, 13 VD2, 14 NC hidden to GND, 15 VD1, 16 NC hidden to GND
text: X2

## YA8779-BL
designator T?
Flyback Transformer, 3:1, 6W
pins: 1, 4, 5, 6, 7, 8
text: PRI; SEC

## YFF-AC
designator Z?
Feed Thru Filter, Surface Mount
pins: 1 "IN/OUT", 2 hidden to GND "GND", 3 "IN/OUT"

## YFF-SC
designator Z?
Feed Thru Filter, Surface Mount
pins: 1 "IN/OUT", 2 hidden to GND "GND", 3 "IN/OUT"

## ZENER
designator D?
Zener Diode
pins: A, K

## ZLDO1117G
designator U?
Volt Regulator, 1A, LDO, SOT223, -40/+125C
pins: 1 ADJ, 2 Vout, 3 Vin, 4 Vout

## ZRB500
designator *
pins: 1 hidden, 2 GND, 3 VR

## ZXMN6A08E6TA
designator Q?
N-Channel Enhancement Mode FET; Value: ZXMN6A08E6TA
pins: 1 D, 2 D, 3 G, 4 S, 5 D, 6 D